# Altium schematic symbol library SENSOR.SchLib: 1 symbol
Pins are listed as number, name and electrical type; pins without a type are passive.

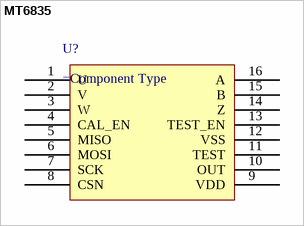
[diagram p0: symbol MT6835]

## MT6835
designator U?
pins: 1 U, 2 V, 3 W, 4 CAL_EN, 5 MISO, 6 MOSI, 7 SCK, 8 CSN, 9 VDD, 10 OUT, 11 TEST, 12 VSS, 13 TEST_EN, 14 Z, 15 B, 16 A